# EAGLE library part WE-RJ45_7498011008 (library 74980104400_Eagle_WE-RJ45_rev19b)
WE-RJ45 LAN Transformer Characteristics RJ45 Connector with integrated transformer / common mode choke Power over Ethernet up to 50 Watt and speeds up to 10 Gbit/s Available in SMD, THT and THT with USB Compliant with standards: IEEE 802.3u, IEEE 802.3ab, IEEE 802.3af, IEEE 802.3at, IEEE 802.3an and upcoming IEE 802.3bt Applications Suitable for industrial temperatures from –40 °C up to +85 °C Compatible to Industrial Ethernet systems like EtherCAT or Profinet Compliant with most IC’s for Ethernet applications such as Microchip, Texas Instruments, Broadcom, Linear Technology Hubs, Routers, Switches, IP cameras, IoT applications <https://katalog.we-online.com/media/images/v2/o35731v209%20Family_WE-RJ45-LAN.jpg> Details see: https://katalog.we-online.com/en/pbs/WE-LAN-RJ45 Updated by Ella Wu 2019-08-05 2019 (C) Wurth Elektronik
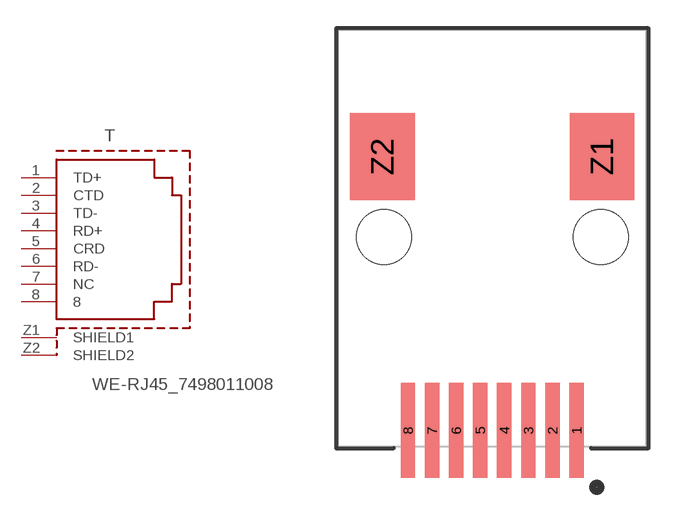
[diagram p21: symbol with the pads of 7498011008; footprint 7498011008]

Designator prefix T

## WE-RJ45_7498011008 (DATA-RATE: 10/100 Base-T; DATASHEET-URL: https://katalog.we-online.com/pbs/datasheet/7498011008.pdf; LED: -; MOUNT: SMT; PART-NUMBER: 7498011008; POE: non-PoE; PORTS: 1; USB: No)  [7498011008]
1  TD+
2  CTD
3  TD-
4  RD+
5  CRD
6  RD-
7  NC  pas
8  8
Z1  SHIELD1  pwr
Z2  SHIELD2  pwr

## Footprint 7498011008 (pad centres in mm)
WE-RJ45 LAN Transformer 10/100 Base-T
smd 0.76 x 5: 1 4.445,-10.2; 2 3.175,-10.2; 3 1.905,-10.2; 4 0.635,-10.2; 5 -0.635,-10.2; 6 -1.905,-10.2; 7 -3.175,-10.2; 8 -4.445,-10.2
smd 3.42 x 4.58: Z1 5.79,4.24; Z2 -5.79,4.24
hole 2.9 at -5.715,0
hole 2.9 at 5.715,0